# Altium footprint library IC.PcbLib: 20 footprints (part 2 of 2)
Each footprint in its own frame and in the unit in brackets; x right, y up, seen from the top. Pads: shape width x height; smd on the part's side, far side on the other; paste and mask are expansions set on the pad; w line width, h text height; cw(c..) or ccw(c..) is an arc to the next point about the centre after c.
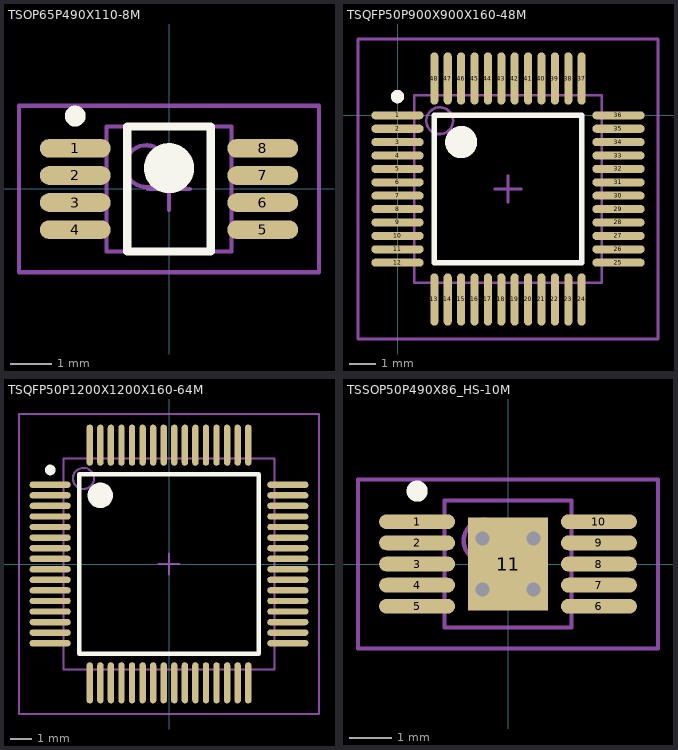
[diagram p1: the footprints below, top view; thin cyan lines are the x and y axes]

## TSOP65P490X110-8M [mm] "TSOP, 8-Leads, Body 3.0x3.0mm (max), Pitch 0.65mm, IPC Low Density"
height 1.1
pads (8):
  oval 1.7x0.45 smd: 1(-2.25,0.975) 2(-2.25,0.325) 3(-2.25,-0.325) 4(-2.25,-0.975) 5(2.25,-0.975) 6(2.25,-0.325) 7(2.25,0.325) 8(2.25,0.975)
Top Overlay:
  circle w0.6: c0,0.5 r0.3
  circle w0.25: c-2.25,1.75 r0.125
  lines w0.2: -1,-1.5 1,-1.5 1,1.5 -1,1.5 -1,-1.5
Mechanical 13:
  circle w0.1: c-0.55,0.55 r0.5
  lines w0.1: -1.5,-1.5 1.5,-1.5 1.5,1.5 -1.5,1.5 -1.5,-1.5
Mechanical 15:
  lines w0.1: -0.5,0 0.5,0 ; 0,-0.5 0,0.5 ; -3.6,-2 3.6,-2 3.6,2 -3.6,2 -3.6,-2
3D body: height 1.1, standoff 0.16, extent -1.5,-1.5 1.5,1.5

## TSQFP50P900X900X160-48M [mm]
pads (48):
  oval 1.95x0.3 smd: 1(0,0) 2(0,-0.5) 3(0,-1) 4(0,-1.5) 5(0,-2) 6(0,-2.5) 7(0,-3) 8(0,-3.5) 9(0,-4) 10(0,-4.5) 11(0,-5) 12(0,-5.5) 25(8.25,-5.5) 26(8.25,-5) 27(8.25,-4.5) 28(8.25,-4) 29(8.25,-3.5) 30(8.25,-3) 31(8.25,-2.5) 32(8.25,-2) 33(8.25,-1.5) 34(8.25,-1) 35(8.25,-0.5) 36(8.25,0)
  oval 0.3x1.95 smd: 13(1.375,-6.875) 14(1.875,-6.875) 15(2.375,-6.875) 16(2.875,-6.875) 17(3.375,-6.875) 18(3.875,-6.875) 19(4.375,-6.875) 20(4.875,-6.875) 21(5.375,-6.875) 22(5.875,-6.875) 23(6.375,-6.875) 24(6.875,-6.875) 37(6.875,1.375) 38(6.375,1.375) 39(5.875,1.375) 40(5.375,1.375) 41(4.875,1.375) 42(4.375,1.375) 43(3.875,1.375) 44(3.375,1.375) 45(2.875,1.375) 46(2.375,1.375) 47(1.875,1.375) 48(1.375,1.375)
Top Overlay:
  circle w0.25: c0,0.7 r0.125
  circle w0.6: c2.375,-1 r0.3
  lines w0.2: 1.375,-5.5 1.375,0 6.875,0 6.875,-5.5 1.375,-5.5
Mechanical 13:
  circle w0.1: c1.575,-0.2 r0.5
  lines w0.1: 0.625,-6.25 0.625,0.75 7.625,0.75 7.625,-6.25 0.625,-6.25
Mechanical 15:
  lines w0.1: 3.625,-2.75 4.625,-2.75 ; 4.125,-3.25 4.125,-2.25 ; -1.475,-8.35 -1.475,2.85 9.725,2.85 9.725,-8.35 -1.475,-8.35
3D body: height 1.6, standoff 0.15, extent 0.625,-6.25 7.625,0.75

## TSQFP50P1200X1200X160-64M [mm] "TSQFP, 64-Leads, Body 12.0x12.0mm (max), Pitch 0.50mm, IPC Low Density"
height 1.6
pads (64):
  oval 1.95x0.3 smd: 1(-5.625,3.75) 2(-5.625,3.25) 3(-5.625,2.75) 4(-5.625,2.25) 5(-5.625,1.75) 6(-5.625,1.25) 7(-5.625,0.75) 8(-5.625,0.25) 9(-5.625,-0.25) 10(-5.625,-0.75) 11(-5.625,-1.25) 12(-5.625,-1.75) 13(-5.625,-2.25) 14(-5.625,-2.75) 15(-5.625,-3.25) 16(-5.625,-3.75) 33(5.625,-3.75) 34(5.625,-3.25) 35(5.625,-2.75) 36(5.625,-2.25) 37(5.625,-1.75) 38(5.625,-1.25) 39(5.625,-0.75) 40(5.625,-0.25) 41(5.625,0.25) 42(5.625,0.75) 43(5.625,1.25) 44(5.625,1.75) 45(5.625,2.25) 46(5.625,2.75) 47(5.625,3.25) 48(5.625,3.75)
  oval 0.3x1.95 smd: 17(-3.75,-5.625) 18(-3.25,-5.625) 19(-2.75,-5.625) 20(-2.25,-5.625) 21(-1.75,-5.625) 22(-1.25,-5.625) 23(-0.75,-5.625) 24(-0.25,-5.625) 25(0.25,-5.625) 26(0.75,-5.625) 27(1.25,-5.625) 28(1.75,-5.625) 29(2.25,-5.625) 30(2.75,-5.625) 31(3.25,-5.625) 32(3.75,-5.625) 49(3.75,5.625) 50(3.25,5.625) 51(2.75,5.625) 52(2.25,5.625) 53(1.75,5.625) 54(1.25,5.625) 55(0.75,5.625) 56(0.25,5.625) 57(-0.25,5.625) 58(-0.75,5.625) 59(-1.25,5.625) 60(-1.75,5.625) 61(-2.25,5.625) 62(-2.75,5.625) 63(-3.25,5.625) 64(-3.75,5.625)
Top Overlay:
  circle w0.6: c-3.25,3.25 r0.3
  circle w0.25: c-5.625,4.45 r0.125
  lines w0.2: -4.25,-4.25 4.25,-4.25 4.25,4.25 -4.25,4.25 -4.25,-4.25
Mechanical 13:
  circle w0.1: c-4.05,4.05 r0.5
  lines w0.1: -5,-5 5,-5 5,5 -5,5 -5,-5
Mechanical 15:
  lines w0.1: -0.5,0 0.5,0 ; 0,-0.5 0,0.5 ; -7.1,-7.1 7.1,-7.1 7.1,7.1 -7.1,7.1 -7.1,-7.1
3D body: height 1.6, standoff 0.05, extent -5,-5 5,5

## TSSOP50P490X86_HS-10M [mm] "TSSOP, 10-Leads, Body 3.0x3.0mm (max), Pitch 0.50mm, IPC Low Density"
height 0.86
pads (11):
  oval 1.8x0.35 smd: 1(-2.15,1) 2(-2.15,0.5) 3(-2.15,0) 4(-2.15,-0.5) 5(-2.15,-1) 6(2.15,-1) 7(2.15,-0.5) 8(2.15,0) 9(2.15,0.5) 10(2.15,1)
  rect 1.9x2.2 smd: 11(0,0)
via 0.6,-0.6 diameter 0.66 hole 0.33
via -0.6,-0.6 diameter 0.66 hole 0.33
via 0.6,0.6 diameter 0.66 hole 0.33
via -0.6,0.6 diameter 0.66 hole 0.33
Top Overlay:
  circle w0.25: c-2.15,1.725 r0.125
Mechanical 13:
  circle w0.1: c-0.55,0.55 r0.5
  lines w0.1: -1.5,-1.5 1.5,-1.5 1.5,1.5 -1.5,1.5 -1.5,-1.5
Mechanical 15:
  lines w0.1: -0.5,0 0.5,0 ; 0,-0.5 0,0.5 ; -3.55,-2 3.55,-2 3.55,2 -3.55,2 -3.55,-2
3D body: height 0.86, standoff 0.16, extent -1.5,-1.5 1.5,1.5